# EAGLE library part USB-C-PD (library dpx-con-CUSTOM)
USB Connectors 24 Receptacle 1 8.94*7.3mm RoHS Check availability <https://pricing.snapeda.com/parts/TYPE-C-31-M-12/HRO%20Electronics%20Co.%2C%20Ltd./view-part?ref=eda>
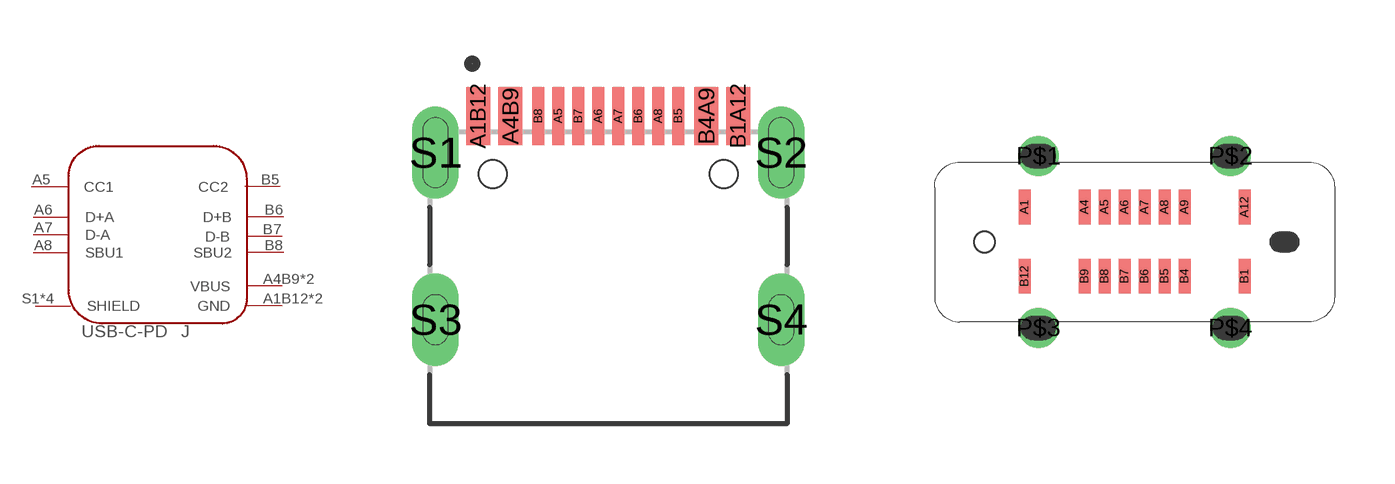
[diagram p13: symbol with the pads of HRO_TYPE-C-31-M-12; footprints HRO_TYPE-C-31-M-12, USB-C-XUNPU-TYPEC-303-ACP-16]

Designator prefix J

## USB-C-PD (AVAILABILITY: Not in stock; DESCRIPTION: USB Connectors 24 Receptacle 1 8.94*7.3mm RoHS; LCPART: C165948; MF: HRO Electronics Co., Ltd.; MP: TYPE-C-31-M-12; PACKAGE: Package; PRICE: None)  [HRO_TYPE-C-31-M-12]
A1B12  GND  pwr
A4B9  VBUS  pwr
A5  CC1
A6  D+A
A7  D-A
A8  SBU1
B1A12  GND  pwr
B4A9  VBUS  pwr
B5  CC2
B6  D+B
B7  D-B
B8  SBU2
S1  SHIELD  pas
S2  SHIELD  pas
S3  SHIELD  pas
S4  SHIELD  pas

## USB-C-PDV  [USB-C-XUNPU-TYPEC-303-ACP-16]
A1  GND  pwr
A4  VBUS  pwr
A5  CC1
A6  D+A
A7  D-A
A8  SBU1
A9  VBUS  pwr
A12  GND  pwr
B1  GND  pwr
B4  VBUS  pwr
B5  CC2
B6  D+B
B7  D-B
B8  SBU2
B9  VBUS  pwr
B12  GND  pwr
P$1  SHIELD  pas
P$2  SHIELD  pas
P$3  SHIELD  pas
P$4  SHIELD  pas

## Footprint HRO_TYPE-C-31-M-12 (pad centres in mm)
smd 0.6 x 1.45: A1B12 -3.25,5.095; A4B9 -2.45,5.095; B1A12 3.25,5.095; B4A9 2.45,5.095
smd 0.3 x 1.45: A5 -1.25,5.095; A6 -0.25,5.095; A7 0.25,5.095; A8 1.25,5.095; B5 1.75,5.095; B6 0.75,5.095; B7 -0.75,5.095; B8 -1.75,5.095
drill 0.65 pad 1.05 long: S1 -4.32,4.18; S2 4.32,4.18; S3 -4.32,0; S4 4.32,0
hole 0.7 at -2.89,3.65
hole 0.7 at 2.89,3.65

## Footprint USB-C-XUNPU-TYPEC-303-ACP-16 (pad centres in mm)
smd 0.3 x 0.87: A1 -2.75,0.87; A4 -1.25,0.87; A5 -0.75,0.87; A6 -0.25,0.87; A7 0.25,0.87; A8 0.75,0.87; A9 1.25,0.87; A12 2.75,0.87; B1 2.75,-0.86; B4 1.25,-0.86; B5 0.75,-0.86; B6 0.25,-0.86; B7 -0.25,-0.86; B8 -0.75,-0.86; B9 -1.25,-0.86; B12 -2.75,-0.86
drill 0.5: P$1 -2.4,2.15; P$2 2.4,2.15; P$3 -2.4,-2.15; P$4 2.4,-2.15
hole 0.52 at -3.75,0